# Altium footprint library WE-LAN.PcbLib: 41 footprints (part 1 of 3)
Each footprint in its own frame and in the unit in brackets; x right, y up, seen from the top. Pads: shape width x height; smd on the part's side, far side on the other; paste and mask are expansions set on the pad; w line width, h text height; cw(c..) or ccw(c..) is an arc to the next point about the centre after c.
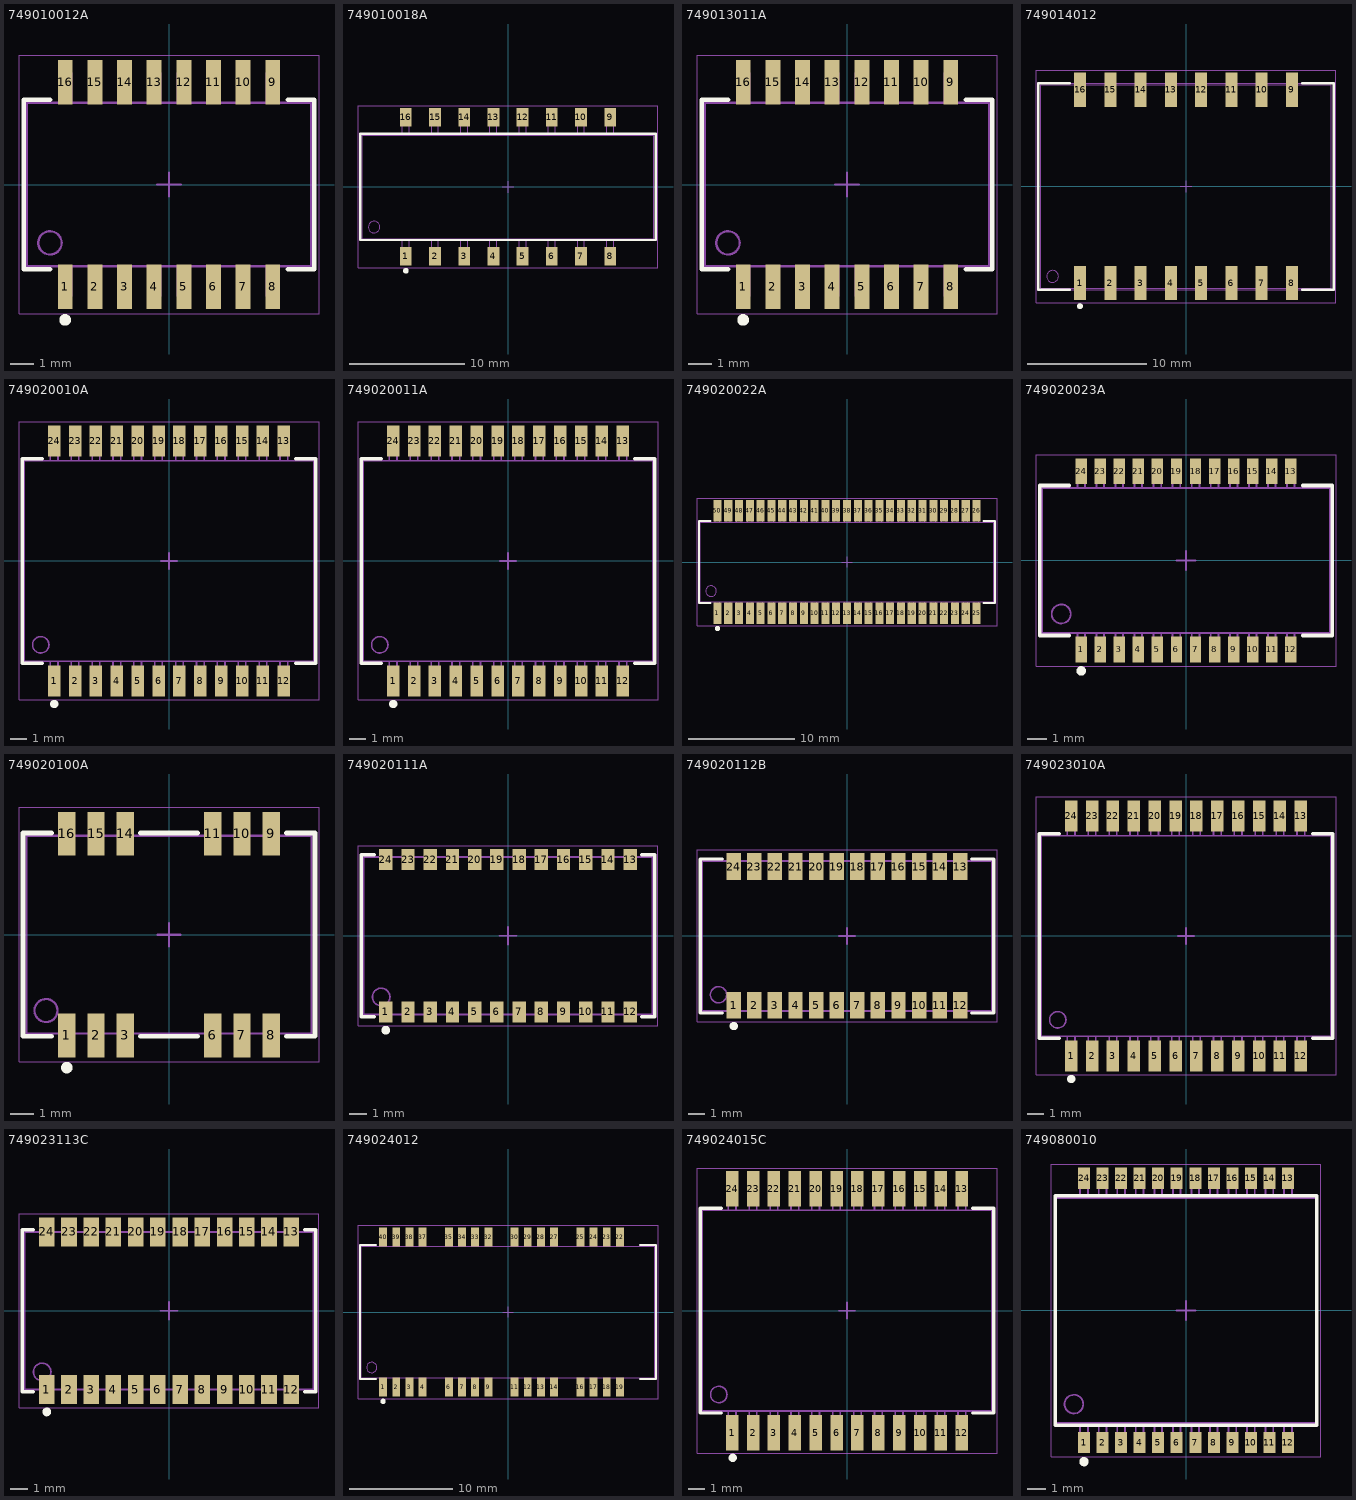
[diagram p0: the footprints below, top view; thin cyan lines are the x and y axes]

## 749010012A [mm] "SMD LAN Transformers, body 12.7x8.8mm, 16-Leads"
height 6.35
pads (16):
  rect 0.64x1.91 smd: 1(-4.445,-4.385) 2(-3.175,-4.385) 3(-1.905,-4.385) 4(-0.635,-4.385) 5(0.635,-4.385) 6(1.905,-4.385) 7(3.175,-4.385) 8(4.445,-4.385) 9(4.445,4.385) 10(3.175,4.385) 11(1.905,4.385) 12(0.635,4.385) 13(-0.635,4.385) 14(-1.905,4.385) 15(-3.175,4.385) 16(-4.445,4.385)
Top Overlay:
  circle w0.25: c-4.45,-5.8 r0.125
  lines w0.2: -5.1,-3.625 -6.225,-3.625 -6.225,3.625 -5.1,3.625 ; 5.1,-3.625 6.225,-3.625 6.225,3.625 5.1,3.625
Top Assembly:
  circle w0.1: c-5.1,-2.5 r0.5
  lines w0.1: -4.7,-3.5 -4.7,-4.76 -4.19,-4.76 -4.19,-3.5 ; -4.7,3.5 -4.7,4.76 -4.19,4.76 -4.19,3.5 ; -3.43,-3.5 -3.43,-4.76 -2.92,-4.76 -2.92,-3.5 ; -3.43,3.5 -3.43,4.76 -2.92,4.76 -2.92,3.5 ; -2.16,-3.5 -2.16,-4.76 -1.65,-4.76 -1.65,-3.5 ; -2.16,3.5 -2.16,4.76 -1.65,4.76 -1.65,3.5 ; -0.89,-3.5 -0.89,-4.76 -0.38,-4.76 -0.38,-3.5 ; -0.89,3.5 -0.89,4.76 -0.38,4.76 -0.38,3.5 ; 0.38,-3.5 0.38,-4.76 0.89,-4.76 0.89,-3.5 ; 0.38,3.5 0.38,4.76 0.89,4.76 0.89,3.5 ; 1.65,-3.5 1.65,-4.76 2.16,-4.76 2.16,-3.5 ; 1.65,3.5 1.65,4.76 2.16,4.76 2.16,3.5 ; 2.92,-3.5 2.92,-4.76 3.43,-4.76 3.43,-3.5 ; 2.92,3.5 2.92,4.76 3.43,4.76 3.43,3.5 ; 4.19,-3.5 4.19,-4.76 4.7,-4.76 4.7,-3.5 ; 4.19,3.5 4.19,4.76 4.7,4.76 4.7,3.5 ; -6.1,-3.5 6.1,-3.5 6.1,3.5 -6.1,3.5 -6.1,-3.5
Top Designator:
  text ".Designator" at -3.647,-0.357 h1
Top Courtyard:
  lines w0.05: -6.425,-5.54 6.425,-5.54 6.425,5.54 -6.425,5.54 -6.425,-5.54
Top Component Center:
  lines w0.1: -0.5,0 0.5,0 ; 0,-0.5 0,0.5
3D body "749010012A.stp": height 5.4, standoff 0, extent -6.1,-4.76 6.1,4.76

## 749010018A [mm] "SMD LAN Transformers, body 25.1x9mm, 16-Leads"
height 5.8
pads (16):
  rect 1.02x1.6 smd: 1(-8.89,-6.05) 2(-6.35,-6.05) 3(-3.81,-6.05) 4(-1.27,-6.05) 5(1.27,-6.05) 6(3.81,-6.05) 7(6.35,-6.05) 8(8.89,-6.05) 9(8.89,6.05) 10(6.35,6.05) 11(3.81,6.05) 12(1.27,6.05) 13(-1.27,6.05) 14(-3.81,6.05) 15(-6.35,6.05) 16(-8.89,6.05)
Top Overlay:
  circle w0.25: c-8.89,-7.3 r0.125
  lines w0.2: -12.85,-4.625 12.85,-4.625 12.85,4.625 -12.85,4.625 -12.85,-4.625
Top Assembly:
  circle w0.1: c-11.65,-3.5 r0.5
  lines w0.1: -9.19,-4.5 -9.19,-6.35 -8.59,-6.35 -8.59,-4.5 ; -9.19,4.5 -9.19,6.35 -8.59,6.35 -8.59,4.5 ; -6.65,-4.5 -6.65,-6.35 -6.05,-6.35 -6.05,-4.5 ; -6.65,4.5 -6.65,6.35 -6.05,6.35 -6.05,4.5 ; -4.11,-4.5 -4.11,-6.35 -3.51,-6.35 -3.51,-4.5 ; -4.11,4.5 -4.11,6.35 -3.51,6.35 -3.51,4.5 ; -1.57,-4.5 -1.57,-6.35 -0.97,-6.35 -0.97,-4.5 ; -1.57,4.5 -1.57,6.35 -0.97,6.35 -0.97,4.5 ; 0.97,-4.5 0.97,-6.35 1.57,-6.35 1.57,-4.5 ; 0.97,4.5 0.97,6.35 1.57,6.35 1.57,4.5 ; 3.51,-4.5 3.51,-6.35 4.11,-6.35 4.11,-4.5 ; 3.51,4.5 3.51,6.35 4.11,6.35 4.11,4.5 ; 6.05,-4.5 6.05,-6.35 6.65,-6.35 6.65,-4.5 ; 6.05,4.5 6.05,6.35 6.65,6.35 6.65,4.5 ; 8.59,-4.5 8.59,-6.35 9.19,-6.35 9.19,-4.5 ; 8.59,4.5 8.59,6.35 9.19,6.35 9.19,4.5 ; -12.7,-4.5 -12.7,4.5 12.7,4.5 12.7,-4.5 -12.7,-4.5
Top Designator:
  text ".Designator" at -3.647,-0.357 h1
Top Courtyard:
  lines w0.05: -13.05,-7.04 13.05,-7.04 13.05,7.05 -13.05,7.05 -13.05,-7.04
Top Component Center:
  lines w0.1: -0.5,0 0.5,0 ; 0,-0.5 0,0.5
3D body "749010018A.stp": height 6.02, standoff 0.02, extent -12.7,-6.35 12.7,6.35

## 749013011A [mm] "SMD LAN Transformers, body 12.7x8.8mm, 16-Leads"
height 6.35
pads (16):
  rect 0.64x1.91 smd: 1(-4.445,-4.385) 2(-3.175,-4.385) 3(-1.905,-4.385) 4(-0.635,-4.385) 5(0.635,-4.385) 6(1.905,-4.385) 7(3.175,-4.385) 8(4.445,-4.385) 9(4.445,4.385) 10(3.175,4.385) 11(1.905,4.385) 12(0.635,4.385) 13(-0.635,4.385) 14(-1.905,4.385) 15(-3.175,4.385) 16(-4.445,4.385)
Top Overlay:
  circle w0.25: c-4.45,-5.8 r0.125
  lines w0.2: -5.1,-3.625 -6.225,-3.625 -6.225,3.625 -5.1,3.625 ; 5.1,-3.625 6.225,-3.625 6.225,3.625 5.1,3.625
Top Assembly:
  circle w0.1: c-5.1,-2.5 r0.5
  lines w0.1: -4.7,-3.5 -4.7,-4.76 -4.19,-4.76 -4.19,-3.5 ; -4.7,3.5 -4.7,4.76 -4.19,4.76 -4.19,3.5 ; -3.43,-3.5 -3.43,-4.76 -2.92,-4.76 -2.92,-3.5 ; -3.43,3.5 -3.43,4.76 -2.92,4.76 -2.92,3.5 ; -2.16,-3.5 -2.16,-4.76 -1.65,-4.76 -1.65,-3.5 ; -2.16,3.5 -2.16,4.76 -1.65,4.76 -1.65,3.5 ; -0.89,-3.5 -0.89,-4.76 -0.38,-4.76 -0.38,-3.5 ; -0.89,3.5 -0.89,4.76 -0.38,4.76 -0.38,3.5 ; 0.38,-3.5 0.38,-4.76 0.89,-4.76 0.89,-3.5 ; 0.38,3.5 0.38,4.76 0.89,4.76 0.89,3.5 ; 1.65,-3.5 1.65,-4.76 2.16,-4.76 2.16,-3.5 ; 1.65,3.5 1.65,4.76 2.16,4.76 2.16,3.5 ; 2.92,-3.5 2.92,-4.76 3.43,-4.76 3.43,-3.5 ; 2.92,3.5 2.92,4.76 3.43,4.76 3.43,3.5 ; 4.19,-3.5 4.19,-4.76 4.7,-4.76 4.7,-3.5 ; 4.19,3.5 4.19,4.76 4.7,4.76 4.7,3.5 ; -6.1,-3.5 -6.1,3.5 6.1,3.5 6.1,-3.5 -6.1,-3.5
Top Designator:
  text ".Designator" at -3.647,-0.357 h1
Top Courtyard:
  lines w0.05: -6.425,-5.54 -6.425,5.54 6.425,5.54 6.425,-5.54 -6.425,-5.54
Top Component Center:
  lines w0.1: -0.5,0 0.5,0 ; 0,-0.5 0,0.5
3D body "749013011A.stp": height 5.4, standoff 0, extent -6.1,-4.76 6.1,4.76

## 749014012 [mm] "SMD LAN Transformers, body 24.4x17.1mm, 16-Leads"
height 10.5
pads (16):
  rect 1.02x2.87 smd: 1(-8.89,-8.115) 2(-6.35,-8.115) 3(-3.81,-8.115) 4(-1.27,-8.115) 5(1.27,-8.115) 6(3.81,-8.115) 7(6.35,-8.115) 8(8.89,-8.115) 9(8.89,8.115) 10(6.35,8.115) 11(3.81,8.115) 12(1.27,8.115) 13(-1.27,8.115) 14(-3.81,8.115) 15(-6.35,8.115) 16(-8.89,8.115)
Top Overlay:
  circle w0.25: c-8.9,-10.05 r0.125
  lines w0.2: -9.75,-8.675 -12.39,-8.675 -12.39,8.675 -9.75,8.675 ; 9.75,-8.675 12.39,-8.675 12.39,8.675 9.75,8.675
Top Assembly:
  circle w0.1: c-11.2,-7.55 r0.5
  lines w0.1: -12.39,-8.675 -12.39,8.675 12.39,8.675 12.39,-8.675 -12.39,-8.675
Top Designator:
  text ".Designator" at -3.647,-0.357 h1
Top 3D Body:
  circle w0.1: c-11.2,-7.55 r0.5
  lines w0.1: -12.2,-8.55 -12.2,8.55 12.2,8.55 12.2,-8.55 -12.2,-8.55
Top Courtyard:
  lines w0.05: -12.59,-9.75 12.59,-9.75 12.59,9.75 -12.59,9.75 -12.59,-9.75
Top Component Center:
  lines w0.1: -0.5,0 0.5,0 ; 0,-0.5 0,0.5
3D body "749014012.stp": height 10.52, standoff 0.02, extent -12.2,-9.05 12.2,9.05

## 749020010A [mil] "SMD LAN Transformers, body 17.5x14.2mm, 24-Leads"
height 255.91
pads (24):
  rect 29.92x75 smd: 1(-275,-287.5) 2(-225,-287.5) 3(-175,-287.5) 4(-125,-287.5) 5(-75,-287.5) 6(-25,-287.5) 7(25,-287.5) 8(75,-287.5) 9(125,-287.5) 10(175,-287.5) 11(225,-287.5) 12(275,-287.5) 13(275,287.5) 14(225,287.5) 15(175,287.5) 16(125,287.5) 17(75,287.5) 18(25,287.5) 19(-25,287.5) 20(-75,287.5) 21(-125,287.5) 22(-175,287.5) 23(-225,287.5) 24(-275,287.5)
Top Overlay:
  circle w9.84: c-275,-342.52 r4.92
  lines w7.87: -303.15,-245.08 -351.38,-245.08 -351.38,245.08 -303.15,245.08 ; 303.15,-245.08 351.38,-245.08 351.38,245.08 303.15,245.08
Top Assembly:
  circle w3.94: c-307.09,-200.79 r19.68
  lines w3.94: -284.06,-240.16 -284.06,-314.96 -265.94,-314.96 -265.94,-240.16 ; -284.06,240.16 -284.06,314.96 -265.94,314.96 -265.94,240.16 ; -234.06,-240.16 -234.06,-314.96 -215.94,-314.96 -215.94,-240.16 ; -234.06,240.16 -234.06,314.96 -215.94,314.96 -215.94,240.16 ; -184.06,-240.16 -184.06,-314.96 -165.94,-314.96 -165.94,-240.16 ; -184.06,240.16 -184.06,314.96 -165.94,314.96 -165.94,240.16 ; -134.06,-240.16 -134.06,-314.96 -115.94,-314.96 -115.94,-240.16 ; -134.06,240.16 -134.06,314.96 -115.94,314.96 -115.94,240.16 ; -84.06,-240.16 -84.06,-314.96 -65.94,-314.96 -65.94,-240.16 ; -84.06,240.16 -84.06,314.96 -65.94,314.96 -65.94,240.16 ; -34.06,-240.16 -34.06,-314.96 -15.94,-314.96 -15.94,-240.16 ; -34.06,240.16 -34.06,314.96 -15.94,314.96 -15.94,240.16 ; 15.94,-240.16 15.94,-314.96 34.06,-314.96 34.06,-240.16 ; 15.94,240.16 15.94,314.96 34.06,314.96 34.06,240.16 ; 65.94,-240.16 65.94,-314.96 84.06,-314.96 84.06,-240.16 ; 65.94,240.16 65.94,314.96 84.06,314.96 84.06,240.16 ; 115.94,-240.16 115.94,-314.96 134.06,-314.96 134.06,-240.16 ; 115.94,240.16 115.94,314.96 134.06,314.96 134.06,240.16 ; 165.94,-240.16 165.94,-314.96 184.06,-314.96 184.06,-240.16 ; 165.94,240.16 165.94,314.96 184.06,314.96 184.06,240.16 ; 215.94,-240.16 215.94,-314.96 234.06,-314.96 234.06,-240.16 ; 215.94,240.16 215.94,314.96 234.06,314.96 234.06,240.16 ; 265.94,-240.16 265.94,-314.96 284.06,-314.96 284.06,-240.16 ; 265.94,240.16 265.94,314.96 284.06,314.96 284.06,240.16 ; -346.46,-240.16 -346.46,240.16 346.46,240.16 346.46,-240.16 -346.46,-240.16
Top Designator:
  text ".Designator" at -143.58,-14.06 h39.37
Top Courtyard:
  lines w1.97: -359.25,-332.87 359.25,-332.87 359.25,332.87 -359.25,332.87 -359.25,-332.87
Top Component Center:
  lines w3.94: -19.68,0 19.68,0 ; 0,-19.68 0,19.68
3D body "749020010A.stp": height 237.2, standoff 0.98, extent -346.46,-312.99 346.45,312.99

## 749020011A [mil] "SMD LAN Transformers, body 17.5x14.2mm, 24-Leads"
height 255.91
pads (24):
  rect 29.92x75 smd: 1(-275,-287.5) 2(-225,-287.5) 3(-175,-287.5) 4(-125,-287.5) 5(-75,-287.5) 6(-25,-287.5) 7(25,-287.5) 8(75,-287.5) 9(125,-287.5) 10(175,-287.5) 11(225,-287.5) 12(275,-287.5) 13(275,287.5) 14(225,287.5) 15(175,287.5) 16(125,287.5) 17(75,287.5) 18(25,287.5) 19(-25,287.5) 20(-75,287.5) 21(-125,287.5) 22(-175,287.5) 23(-225,287.5) 24(-275,287.5)
Top Overlay:
  circle w9.84: c-275,-342.52 r4.92
  lines w7.87: -303.15,-245.08 -351.38,-245.08 -351.38,245.08 -303.15,245.08 ; 303.15,-245.08 351.38,-245.08 351.38,245.08 303.15,245.08
Top Assembly:
  circle w3.94: c-307.09,-200.79 r19.68
  lines w3.94: -284.06,-240.16 -284.06,-314.96 -265.94,-314.96 -265.94,-240.16 ; -284.06,240.16 -284.06,314.96 -265.94,314.96 -265.94,240.16 ; -234.06,-240.16 -234.06,-314.96 -215.94,-314.96 -215.94,-240.16 ; -234.06,240.16 -234.06,314.96 -215.94,314.96 -215.94,240.16 ; -184.06,-240.16 -184.06,-314.96 -165.94,-314.96 -165.94,-240.16 ; -184.06,240.16 -184.06,314.96 -165.94,314.96 -165.94,240.16 ; -134.06,-240.16 -134.06,-314.96 -115.94,-314.96 -115.94,-240.16 ; -134.06,240.16 -134.06,314.96 -115.94,314.96 -115.94,240.16 ; -84.06,-240.16 -84.06,-314.96 -65.94,-314.96 -65.94,-240.16 ; -84.06,240.16 -84.06,314.96 -65.94,314.96 -65.94,240.16 ; -34.06,-240.16 -34.06,-314.96 -15.94,-314.96 -15.94,-240.16 ; -34.06,240.16 -34.06,314.96 -15.94,314.96 -15.94,240.16 ; 15.94,-240.16 15.94,-314.96 34.06,-314.96 34.06,-240.16 ; 15.94,240.16 15.94,314.96 34.06,314.96 34.06,240.16 ; 65.94,-240.16 65.94,-314.96 84.06,-314.96 84.06,-240.16 ; 65.94,240.16 65.94,314.96 84.06,314.96 84.06,240.16 ; 115.94,-240.16 115.94,-314.96 134.06,-314.96 134.06,-240.16 ; 115.94,240.16 115.94,314.96 134.06,314.96 134.06,240.16 ; 165.94,-240.16 165.94,-314.96 184.06,-314.96 184.06,-240.16 ; 165.94,240.16 165.94,314.96 184.06,314.96 184.06,240.16 ; 215.94,-240.16 215.94,-314.96 234.06,-314.96 234.06,-240.16 ; 215.94,240.16 215.94,314.96 234.06,314.96 234.06,240.16 ; 265.94,-240.16 265.94,-314.96 284.06,-314.96 284.06,-240.16 ; 265.94,240.16 265.94,314.96 284.06,314.96 284.06,240.16 ; -346.46,-240.16 346.46,-240.16 346.46,240.16 -346.46,240.16 -346.46,-240.16
Top Designator:
  text ".Designator" at -143.58,-14.06 h39.37
Top Courtyard:
  lines w1.97: -359.25,-332.87 -359.25,332.87 359.25,332.87 359.25,-332.87 -359.25,-332.87
Top Component Center:
  lines w3.94: -19.68,0 19.68,0 ; 0,-19.68 0,19.68
3D body "749020011A.stp": height 237.2, standoff 0.98, extent -346.46,-312.99 346.45,312.99

## 749020022A [mm] "SMD LAN Transformers, body 27.7x7.5mm, 50-Leads"
height 8.65
pads (50):
  rect 0.76x2.03 smd: 1(-12.24,-4.825) 2(-11.22,-4.825) 3(-10.2,-4.825) 4(-9.18,-4.825) 5(-8.16,-4.825) 6(-7.14,-4.825) 7(-6.12,-4.825) 8(-5.1,-4.825) 9(-4.08,-4.825) 10(-3.06,-4.825) 11(-2.04,-4.825) 12(-1.02,-4.825) 13(0,-4.825) 14(1.02,-4.825) 15(2.04,-4.825) 16(3.06,-4.825) 17(4.08,-4.825) 18(5.1,-4.825) 19(6.12,-4.825) 20(7.14,-4.825) 21(8.16,-4.825) 22(9.18,-4.825) 23(10.2,-4.825) 24(11.22,-4.825) 25(12.24,-4.825) 26(12.24,4.825) 27(11.22,4.825) 28(10.2,4.825) 29(9.18,4.825) 30(8.16,4.825) 31(7.14,4.825) 32(6.12,4.825) 33(5.1,4.825) 34(4.08,4.825) 35(3.06,4.825) 36(2.04,4.825) 37(1.02,4.825) 38(0,4.825) 39(-1.02,4.825) 40(-2.04,4.825) 41(-3.06,4.825) 42(-4.08,4.825) 43(-5.1,4.825) 44(-6.12,4.825) 45(-7.14,4.825) 46(-8.16,4.825) 47(-9.18,4.825) 48(-10.2,4.825) 49(-11.22,4.825) 50(-12.24,4.825)
Top Overlay:
  circle w0.25: c-12.24,-6.29 r0.125
  lines w0.2: -12.9,-3.875 -13.975,-3.875 -13.975,3.875 -12.9,3.875 ; 12.9,-3.875 13.975,-3.875 13.975,3.875 12.9,3.875
Top Assembly:
  drawing of 155 lines, arcs and shapes, not listed
Top Designator:
  text ".Designator" at -3.647,-0.357 h1
Top Courtyard:
  lines w0.05: -14.175,-6.04 14.175,-6.04 14.175,6.04 -14.175,6.04 -14.175,-6.04
Top Component Center:
  lines w0.1: -0.5,0 0.5,0 ; 0,-0.5 0,0.5
3D body "749020022A.stp": height 8.66, standoff 0, extent -14.1,-5.58 14.1,5.58

## 749020023A [mm] "SMD LAN Transformers, body 15.1x7.1mm, 24-Leads"
height 4.25
pads (24):
  rect 0.6x1.35 smd: 1(-5.5,-4.675) 2(-4.5,-4.675) 3(-3.5,-4.675) 4(-2.5,-4.675) 5(-1.5,-4.675) 6(-0.5,-4.675) 7(0.5,-4.675) 8(1.5,-4.675) 9(2.5,-4.675) 10(3.5,-4.675) 11(4.5,-4.675) 12(5.5,-4.675) 13(5.5,4.675) 14(4.5,4.675) 15(3.5,4.675) 16(2.5,4.675) 17(1.5,4.675) 18(0.5,4.675) 19(-0.5,4.675) 20(-1.5,4.675) 21(-2.5,4.675) 22(-3.5,4.675) 23(-4.5,4.675) 24(-5.5,4.675)
Top Overlay:
  circle w0.25: c-5.5,-5.8 r0.125
  lines w0.2: -6.15,-3.935 -7.675,-3.935 -7.675,3.935 -6.15,3.935 ; 6.15,-3.935 7.675,-3.935 7.675,3.935 6.15,3.935
Top Assembly:
  circle w0.1: c-6.55,-2.81 r0.5
  lines w0.1: -5.7,-3.81 -5.7,-5 -5.3,-5 -5.3,-3.81 ; -5.7,3.81 -5.7,5 -5.3,5 -5.3,3.81 ; -4.7,-3.81 -4.7,-5 -4.3,-5 -4.3,-3.81 ; -4.7,3.81 -4.7,5 -4.3,5 -4.3,3.81 ; -3.7,-3.81 -3.7,-5 -3.3,-5 -3.3,-3.81 ; -3.7,3.81 -3.7,5 -3.3,5 -3.3,3.81 ; -2.7,-3.81 -2.7,-5 -2.3,-5 -2.3,-3.81 ; -2.7,3.81 -2.7,5 -2.3,5 -2.3,3.81 ; -1.7,-3.81 -1.7,-5 -1.3,-5 -1.3,-3.81 ; -1.7,3.81 -1.7,5 -1.3,5 -1.3,3.81 ; -0.7,-3.81 -0.7,-5 -0.3,-5 -0.3,-3.81 ; -0.7,3.81 -0.7,5 -0.3,5 -0.3,3.81 ; 0.3,-3.81 0.3,-5 0.7,-5 0.7,-3.81 ; 0.3,3.81 0.3,5 0.7,5 0.7,3.81 ; 1.3,-3.81 1.3,-5 1.7,-5 1.7,-3.81 ; 1.3,3.81 1.3,5 1.7,5 1.7,3.81 ; 2.3,-3.81 2.3,-5 2.7,-5 2.7,-3.81 ; 2.3,3.81 2.3,5 2.7,5 2.7,3.81 ; 3.3,-3.81 3.3,-5 3.7,-5 3.7,-3.81 ; 3.3,3.81 3.3,5 3.7,5 3.7,3.81 ; 4.3,-3.81 4.3,-5 4.7,-5 4.7,-3.81 ; 4.3,3.81 4.3,5 4.7,5 4.7,3.81 ; 5.3,-3.81 5.3,-5 5.7,-5 5.7,-3.81 ; 5.3,3.81 5.3,5 5.7,5 5.7,3.81 ; -7.55,-3.81 7.55,-3.81 7.55,3.81 -7.55,3.81 -7.55,-3.81
Top Designator:
  text ".Designator" at -3.647,-0.357 h1
Top Courtyard:
  lines w0.05: -7.875,-5.55 7.875,-5.55 7.875,5.55 -7.875,5.55 -7.875,-5.55
Top Component Center:
  lines w0.1: -0.5,0 0.5,0 ; 0,-0.5 0,0.5
3D body "749020023A.stp": height 4, standoff 0, extent -7.551,-5 7.551,5

## 749020100A [mm] "SMD LAN Transformers, body 12.4x8.6mm, 12-Leads"
height 3.25
pads (12):
  rect 0.76x1.9 smd: 1(-4.445,-4.385) 2(-3.175,-4.385) 3(-1.905,-4.385) 6(1.905,-4.385) 7(3.175,-4.385) 8(4.445,-4.385) 9(4.445,4.385) 10(3.175,4.385) 11(1.905,4.385) 14(-1.905,4.385) 15(-3.175,4.385) 16(-4.445,4.385)
Top Overlay:
  circle w0.25: c-4.445,-5.785 r0.125
  lines w0.2: -5.1,-4.425 -6.35,-4.425 -6.35,4.425 -5.1,4.425 ; -1.25,-4.425 1.25,-4.425 ; -1.25,4.425 1.25,4.425 ; 5.1,-4.425 6.35,-4.425 6.35,4.425 5.1,4.425
Top Assembly:
  circle w0.1: c-5.35,-3.3 r0.5
  lines w0.1: -6.2,-4.3 6.2,-4.3 6.2,4.3 -6.2,4.3 -6.2,-4.3
Top Designator:
  text ".Designator" at -3.647,-0.357 h1
Top Courtyard:
  lines w0.05: -6.525,-5.535 6.525,-5.535 6.525,5.535 -6.525,5.535 -6.525,-5.535
Top Component Center:
  lines w0.1: -0.5,0 0.5,0 ; 0,-0.5 0,0.5
3D body "749020100A.stp": height 2.93, standoff 0, extent -6.225,-4.75 6.225,4.75

## 749020111A [mm] "SMD LAN Transformers, body 16.5x9mm, 24-Leads"
height 2.35
pads (24):
  rect 0.76x1.2 smd: 1(-6.985,-4.35) 2(-5.715,-4.35) 3(-4.445,-4.35) 4(-3.175,-4.35) 5(-1.905,-4.35) 6(-0.635,-4.35) 7(0.635,-4.35) 8(1.905,-4.35) 9(3.175,-4.35) 10(4.445,-4.35) 11(5.715,-4.35) 12(6.985,-4.35) 13(6.985,4.35) 14(5.715,4.35) 15(4.445,4.35) 16(3.175,4.35) 17(1.905,4.35) 18(0.635,4.35) 19(-0.635,4.35) 20(-1.905,4.35) 21(-3.175,4.35) 22(-4.445,4.35) 23(-5.715,4.35) 24(-6.985,4.35)
Top Overlay:
  circle w0.25: c-6.985,-5.4 r0.125
  lines w0.2: -7.65,-4.625 -8.375,-4.625 -8.375,4.625 -7.65,4.625 ; 7.65,-4.625 8.375,-4.625 8.375,4.625 7.65,4.625
Top Assembly:
  circle w0.1: c-7.25,-3.5 r0.5
  lines w0.1: -8.25,-4.5 8.25,-4.5 8.25,4.5 -8.25,4.5 -8.25,-4.5
Top Designator:
  text ".Designator" at -3.647,-0.357 h1
Top Courtyard:
  lines w0.05: -8.575,-5.15 -8.575,5.15 8.575,5.15 8.575,-5.15 -8.575,-5.15
Top Component Center:
  lines w0.1: -0.5,0 0.5,0 ; 0,-0.5 0,0.5
3D body "749020111A.stp": height 2.35, standoff 0, extent -8.25,-4.8 8.25,4.8

## 749020112B [mm] "SMD LAN Transformers, body 17.85x9.25mm, 16-Leads"
height 2.39
pads (24):
  rect 0.89x1.65 smd: 1(-6.985,-4.28) 2(-5.715,-4.28) 3(-4.445,-4.28) 4(-3.175,-4.28) 5(-1.905,-4.28) 6(-0.635,-4.28) 7(0.635,-4.28) 8(1.905,-4.28) 9(3.175,-4.28) 10(4.445,-4.28) 11(5.715,-4.28) 12(6.985,-4.28) 13(6.985,4.28) 14(5.715,4.28) 15(4.445,4.28) 16(3.175,4.28) 17(1.905,4.28) 18(0.635,4.28) 19(-0.635,4.28) 20(-1.905,4.28) 21(-3.175,4.28) 22(-4.445,4.28) 23(-5.715,4.28) 24(-6.985,4.28)
Top Overlay:
  circle w0.25: c-6.985,-5.555 r0.125
  lines w0.2: -7.7,-4.75 -9.05,-4.75 -9.05,4.75 -7.7,4.75 ; 7.7,-4.75 9.05,-4.75 9.05,4.75 7.7,4.75
Top Assembly:
  circle w0.1: c-7.925,-3.625 r0.5
  lines w0.1: -8.925,-4.625 -8.925,4.625 8.925,4.625 8.925,-4.625 -8.925,-4.625
Top Designator:
  text ".Designator" at -3.647,-0.357 h1
Top Courtyard:
  lines w0.05: -9.25,-5.305 9.25,-5.305 9.25,5.305 -9.25,5.305 -9.25,-5.305
Top Component Center:
  lines w0.1: -0.5,0 0.5,0 ; 0,-0.5 0,0.5
3D body "749020112B.stp": height 2.39, standoff 0, extent -8.925,-4.775 8.925,4.775

## 749023010A [mil] "SMD LAN Transformers, body 17.5x14.2mm, 24-Leads"
height 255.91
pads (24):
  rect 29.92x75 smd: 1(-275,-287.5) 2(-225,-287.5) 3(-175,-287.5) 4(-125,-287.5) 5(-75,-287.5) 6(-25,-287.5) 7(25,-287.5) 8(75,-287.5) 9(125,-287.5) 10(175,-287.5) 11(225,-287.5) 12(275,-287.5) 13(275,287.5) 14(225,287.5) 15(175,287.5) 16(125,287.5) 17(75,287.5) 18(25,287.5) 19(-25,287.5) 20(-75,287.5) 21(-125,287.5) 22(-175,287.5) 23(-225,287.5) 24(-275,287.5)
Top Overlay:
  circle w9.84: c-275,-342.52 r4.92
  lines w7.87: -303.15,-245.08 -351.38,-245.08 -351.38,245.08 -303.15,245.08 ; 303.15,-245.08 351.38,-245.08 351.38,245.08 303.15,245.08
Top Assembly:
  circle w3.94: c-307.09,-200.79 r19.68
  lines w3.94: -284.06,-240.16 -284.06,-314.96 -265.94,-314.96 -265.94,-240.16 ; -284.06,240.16 -284.06,314.96 -265.94,314.96 -265.94,240.16 ; -234.06,-240.16 -234.06,-314.96 -215.94,-314.96 -215.94,-240.16 ; -234.06,240.16 -234.06,314.96 -215.94,314.96 -215.94,240.16 ; -184.06,-240.16 -184.06,-314.96 -165.94,-314.96 -165.94,-240.16 ; -184.06,240.16 -184.06,314.96 -165.94,314.96 -165.94,240.16 ; -134.06,-240.16 -134.06,-314.96 -115.94,-314.96 -115.94,-240.16 ; -134.06,240.16 -134.06,314.96 -115.94,314.96 -115.94,240.16 ; -84.06,-240.16 -84.06,-314.96 -65.94,-314.96 -65.94,-240.16 ; -84.06,240.16 -84.06,314.96 -65.94,314.96 -65.94,240.16 ; -34.06,-240.16 -34.06,-314.96 -15.94,-314.96 -15.94,-240.16 ; -34.06,240.16 -34.06,314.96 -15.94,314.96 -15.94,240.16 ; 15.94,-240.16 15.94,-314.96 34.06,-314.96 34.06,-240.16 ; 15.94,240.16 15.94,314.96 34.06,314.96 34.06,240.16 ; 65.94,-240.16 65.94,-314.96 84.06,-314.96 84.06,-240.16 ; 65.94,240.16 65.94,314.96 84.06,314.96 84.06,240.16 ; 115.94,-240.16 115.94,-314.96 134.06,-314.96 134.06,-240.16 ; 115.94,240.16 115.94,314.96 134.06,314.96 134.06,240.16 ; 165.94,-240.16 165.94,-314.96 184.06,-314.96 184.06,-240.16 ; 165.94,240.16 165.94,314.96 184.06,314.96 184.06,240.16 ; 215.94,-240.16 215.94,-314.96 234.06,-314.96 234.06,-240.16 ; 215.94,240.16 215.94,314.96 234.06,314.96 234.06,240.16 ; 265.94,-240.16 265.94,-314.96 284.06,-314.96 284.06,-240.16 ; 265.94,240.16 265.94,314.96 284.06,314.96 284.06,240.16 ; -346.46,-240.16 346.46,-240.16 346.46,240.16 -346.46,240.16 -346.46,-240.16
Top Designator:
  text ".Designator" at -143.58,-14.06 h39.37
Top Courtyard:
  lines w1.97: -359.25,-332.87 359.25,-332.87 359.25,332.87 -359.25,332.87 -359.25,-332.87
Top Component Center:
  lines w3.94: -19.68,0 19.68,0 ; 0,-19.68 0,19.68
3D body "749023010A.stp": height 237.2, standoff 0.98, extent -346.46,-312.99 346.45,313

## 749023113C [mm] "SMD LAN Transformers, body 16.5x9mm, 24-Leads"
height 2.4
pads (24):
  rect 0.89x1.65 smd: 1(-6.985,-4.51) 2(-5.715,-4.51) 3(-4.445,-4.51) 4(-3.175,-4.51) 5(-1.905,-4.51) 6(-0.635,-4.51) 7(0.635,-4.51) 8(1.905,-4.51) 9(3.175,-4.51) 10(4.445,-4.51) 11(5.715,-4.51) 12(6.985,-4.51) 13(6.985,4.51) 14(5.715,4.51) 15(4.445,4.51) 16(3.175,4.51) 17(1.905,4.51) 18(0.635,4.51) 19(-0.635,4.51) 20(-1.905,4.51) 21(-3.175,4.51) 22(-4.445,4.51) 23(-5.715,4.51) 24(-6.985,4.51)
Top Overlay:
  circle w0.25: c-6.985,-5.785 r0.125
  lines w0.2: -7.75,-4.625 -8.375,-4.625 -8.375,4.625 -7.75,4.625 ; 7.75,-4.625 8.375,-4.625 8.375,4.625 7.75,4.625
Top Assembly:
  circle w0.1: c-7.25,-3.5 r0.5
  lines w0.1: -8.25,-4.5 8.25,-4.5 8.25,4.5 -8.25,4.5 -8.25,-4.5
Top Designator:
  text ".Designator" at -3.647,-0.357 h1
Top Courtyard:
  lines w0.05: -8.575,-5.535 8.575,-5.535 8.575,5.535 -8.575,5.535 -8.575,-5.535
Top Component Center:
  lines w0.1: -0.5,0 0.5,0 ; 0,-0.5 0,0.5
3D body "749023113C.stp": height 2.35, standoff 0.01, extent -8.25,-4.8 8.25,4.8

## 749024012 [mm] "SMD LAN Transformers, body 28.32x12.7mm, 32-Leads"
height 12.7
pads (32):
  rect 0.76x1.86 smd: 1(-12.06,-7.24) 2(-10.79,-7.24) 3(-9.52,-7.24) 4(-8.25,-7.24) 6(-5.71,-7.24) 7(-4.44,-7.24) 8(-3.17,-7.24) 9(-1.9,-7.24) 11(0.64,-7.24) 12(1.91,-7.24) 13(3.18,-7.24) 14(4.45,-7.24) 16(6.99,-7.24) 17(8.26,-7.24) 18(9.53,-7.24) 19(10.8,-7.24) 22(10.8,7.24) 23(9.53,7.24) 24(8.26,7.24) 25(6.99,7.24) 27(4.45,7.24) 28(3.18,7.24) 29(1.91,7.24) 30(0.64,7.24) 32(-1.9,7.24) 33(-3.17,7.24) 34(-4.44,7.24) 35(-5.71,7.24) 37(-8.25,7.24) 38(-9.52,7.24) 39(-10.79,7.24) 40(-12.06,7.24)
Top Overlay:
  circle w0.25: c-12.06,-8.62 r0.125
  lines w0.2: -12.75,-6.475 -14.285,-6.475 -14.285,6.475 -12.75,6.475 ; 12.75,-6.475 14.285,-6.475 14.285,6.475 12.75,6.475
Top Assembly:
  circle w0.1: c-13.16,-5.35 r0.5
  lines w0.1: -12.285,-6.35 -12.285,-7.745 -11.835,-7.745 -11.835,-6.35 ; -12.285,6.35 -12.285,7.745 -11.835,7.745 -11.835,6.35 ; -11.015,-6.35 -11.015,-7.745 -10.565,-7.745 -10.565,-6.35 ; -11.015,6.35 -11.015,7.745 -10.565,7.745 -10.565,6.35 ; -9.745,-6.35 -9.745,-7.745 -9.295,-7.745 -9.295,-6.35 ; -9.745,6.35 -9.745,7.745 -9.295,7.745 -9.295,6.35 ; -8.475,-6.35 -8.475,-7.745 -8.025,-7.745 -8.025,-6.35 ; -8.475,6.35 -8.475,7.745 -8.025,7.745 -8.025,6.35 ; -5.935,-6.35 -5.935,-7.745 -5.485,-7.745 -5.485,-6.35 ; -5.935,6.35 -5.935,7.745 -5.485,7.745 -5.485,6.35 ; -4.665,-6.35 -4.665,-7.745 -4.215,-7.745 -4.215,-6.35 ; -4.665,6.35 -4.665,7.745 -4.215,7.745 -4.215,6.35 ; -3.395,-6.35 -3.395,-7.745 -2.945,-7.745 -2.945,-6.35 ; -3.395,6.35 -3.395,7.745 -2.945,7.745 -2.945,6.35 ; -2.125,-6.35 -2.125,-7.745 -1.675,-7.745 -1.675,-6.35 ; -2.125,6.35 -2.125,7.745 -1.675,7.745 -1.675,6.35 ; 0.415,-6.35 0.415,-7.745 0.865,-7.745 0.865,-6.35 ; 0.415,6.35 0.415,7.745 0.865,7.745 0.865,6.35 ; 1.685,-6.35 1.685,-7.745 2.135,-7.745 2.135,-6.35 ; 1.685,6.35 1.685,7.745 2.135,7.745 2.135,6.35 ; 2.955,-6.35 2.955,-7.745 3.405,-7.745 3.405,-6.35 ; 2.955,6.35 2.955,7.745 3.405,7.745 3.405,6.35 ; 4.225,-6.35 4.225,-7.745 4.675,-7.745 4.675,-6.35 ; 4.225,6.35 4.225,7.745 4.675,7.745 4.675,6.35 ; 6.765,-6.35 6.765,-7.745 7.215,-7.745 7.215,-6.35 ; 6.765,6.35 6.765,7.745 7.215,7.745 7.215,6.35 ; 8.035,-6.35 8.035,-7.745 8.485,-7.745 8.485,-6.35 ; 8.035,6.35 8.035,7.745 8.485,7.745 8.485,6.35 ; 9.305,-6.35 9.305,-7.745 9.755,-7.745 9.755,-6.35 ; 9.305,6.35 9.305,7.745 9.755,7.745 9.755,6.35 ; 10.575,-6.35 10.575,-7.745 11.025,-7.745 11.025,-6.35 ; 10.575,6.35 10.575,7.745 11.025,7.745 11.025,6.35 ; -14.16,-6.35 -14.16,6.35 14.16,6.35 14.16,-6.35 -14.16,-6.35
Top Designator:
  text ".Designator" at -3.647,-0.357 h1
Top Courtyard:
  lines w0.05: -14.485,-8.37 14.485,-8.37 14.485,8.37 -14.485,8.37 -14.485,-8.37
Top Component Center:
  lines w0.1: -0.5,0 0.5,0 ; 0,-0.5 0,0.5
3D body "749024012.stp": height 12.7, standoff 0, extent -14.285,-7.745 14.285,7.745

## 749024015C [mm] "SMD LAN Transformers, body 17.6x14.2mm, 24-Leads"
height 6
pads (24):
  rect 0.76x2.15 smd: 1(-6.985,-7.425) 2(-5.715,-7.425) 3(-4.445,-7.425) 4(-3.175,-7.425) 5(-1.905,-7.425) 6(-0.635,-7.425) 7(0.635,-7.425) 8(1.905,-7.425) 9(3.175,-7.425) 10(4.445,-7.425) 11(5.715,-7.425) 12(6.985,-7.425) 13(6.985,7.425) 14(5.715,7.425) 15(4.445,7.425) 16(3.175,7.425) 17(1.905,7.425) 18(0.635,7.425) 19(-0.635,7.425) 20(-1.905,7.425) 21(-3.175,7.425) 22(-4.445,7.425) 23(-5.715,7.425) 24(-6.985,7.425)
Top Overlay:
  circle w0.25: c-6.95,-8.95 r0.125
  lines w0.2: -7.65,-6.225 -8.925,-6.225 -8.925,6.225 -7.65,6.225 ; 7.65,-6.225 8.925,-6.225 8.925,6.225 7.65,6.225
Top Assembly:
  circle w0.1: c-7.8,-5.1 r0.5
  lines w0.1: -7.215,-6.1 -7.215,-8 -6.755,-8 -6.755,-6.1 ; -7.215,6.1 -7.215,8 -6.755,8 -6.755,6.1 ; -5.945,-6.1 -5.945,-8 -5.485,-8 -5.485,-6.1 ; -5.945,6.1 -5.945,8 -5.485,8 -5.485,6.1 ; -4.675,-6.1 -4.675,-8 -4.215,-8 -4.215,-6.1 ; -4.675,6.1 -4.675,8 -4.215,8 -4.215,6.1 ; -3.405,-6.1 -3.405,-8 -2.945,-8 -2.945,-6.1 ; -3.405,6.1 -3.405,8 -2.945,8 -2.945,6.1 ; -2.135,-6.1 -2.135,-8 -1.675,-8 -1.675,-6.1 ; -2.135,6.1 -2.135,8 -1.675,8 -1.675,6.1 ; -0.865,-6.1 -0.865,-8 -0.405,-8 -0.405,-6.1 ; -0.865,6.1 -0.865,8 -0.405,8 -0.405,6.1 ; 0.405,-6.1 0.405,-8 0.865,-8 0.865,-6.1 ; 0.405,6.1 0.405,8 0.865,8 0.865,6.1 ; 1.675,-6.1 1.675,-8 2.135,-8 2.135,-6.1 ; 1.675,6.1 1.675,8 2.135,8 2.135,6.1 ; 2.945,-6.1 2.945,-8 3.405,-8 3.405,-6.1 ; 2.945,6.1 2.945,8 3.405,8 3.405,6.1 ; 4.215,-6.1 4.215,-8 4.675,-8 4.675,-6.1 ; 4.215,6.1 4.215,8 4.675,8 4.675,6.1 ; 5.485,-6.1 5.485,-8 5.945,-8 5.945,-6.1 ; 5.485,6.1 5.485,8 5.945,8 5.945,6.1 ; 6.755,-6.1 6.755,-8 7.215,-8 7.215,-6.1 ; 6.755,6.1 6.755,8 7.215,8 7.215,6.1 ; -8.8,-6.1 8.8,-6.1 8.8,6.1 -8.8,6.1 -8.8,-6.1
Top Designator:
  text ".Designator" at -3.647,-0.357 h1
Top Courtyard:
  lines w0.05: -9.125,-8.67 9.125,-8.67 9.125,8.67 -9.125,8.67 -9.125,-8.67
Top Component Center:
  lines w0.1: -0.5,0 0.5,0 ; 0,-0.5 0,0.5
3D body "749024015C.stp": height 6, standoff 0, extent -8.8,-8 8.8,8

## 749080010 [mm] "SMD LAN Transformers, body 13.97x12mm, 24-Leads"
height 6.6
pads (24):
  rect 0.64x1.14 smd: 1(-5.445,-7.05) 2(-4.455,-7.05) 3(-3.465,-7.05) 4(-2.475,-7.05) 5(-1.485,-7.05) 6(-0.495,-7.05) 7(0.495,-7.05) 8(1.485,-7.05) 9(2.475,-7.05) 10(3.465,-7.05) 11(4.455,-7.05) 12(5.445,-7.05) 13(5.445,7.05) 14(4.455,7.05) 15(3.465,7.05) 16(2.475,7.05) 17(1.485,7.05) 18(0.495,7.05) 19(-0.495,7.05) 20(-1.485,7.05) 21(-2.475,7.05) 22(-3.465,7.05) 23(-4.455,7.05) 24(-5.445,7.05)
Top Overlay:
  circle w0.25: c-5.445,-8.07 r0.125
  lines w0.2: -6.985,-6.125 6.985,-6.125 6.985,6.125 -6.985,6.125 -6.985,-6.125
Top Assembly:
  circle w0.1: c-5.985,-5 r0.5
  lines w0.1: -5.65,-6 -5.65,-7.555 -5.24,-7.555 -5.24,-6 ; -5.65,6 -5.65,7.555 -5.24,7.555 -5.24,6 ; -4.66,-6 -4.66,-7.555 -4.25,-7.555 -4.25,-6 ; -4.66,6 -4.66,7.555 -4.25,7.555 -4.25,6 ; -3.67,-6 -3.67,-7.555 -3.26,-7.555 -3.26,-6 ; -3.67,6 -3.67,7.555 -3.26,7.555 -3.26,6 ; -2.68,-6 -2.68,-7.555 -2.27,-7.555 -2.27,-6 ; -2.68,6 -2.68,7.555 -2.27,7.555 -2.27,6 ; -1.69,-6 -1.69,-7.555 -1.28,-7.555 -1.28,-6 ; -1.69,6 -1.69,7.555 -1.28,7.555 -1.28,6 ; -0.7,-6 -0.7,-7.555 -0.29,-7.555 -0.29,-6 ; -0.7,6 -0.7,7.555 -0.29,7.555 -0.29,6 ; 0.29,-6 0.29,-7.555 0.7,-7.555 0.7,-6 ; 0.29,6 0.29,7.555 0.7,7.555 0.7,6 ; 1.28,-6 1.28,-7.555 1.69,-7.555 1.69,-6 ; 1.28,6 1.28,7.555 1.69,7.555 1.69,6 ; 2.27,-6 2.27,-7.555 2.68,-7.555 2.68,-6 ; 2.27,6 2.27,7.555 2.68,7.555 2.68,6 ; 3.26,-6 3.26,-7.555 3.67,-7.555 3.67,-6 ; 3.26,6 3.26,7.555 3.67,7.555 3.67,6 ; 4.25,-6 4.25,-7.555 4.66,-7.555 4.66,-6 ; 4.25,6 4.25,7.555 4.66,7.555 4.66,6 ; 5.24,-6 5.24,-7.555 5.65,-7.555 5.65,-6 ; 5.24,6 5.24,7.555 5.65,7.555 5.65,6 ; -6.985,-6 -6.985,6 6.985,6 6.985,-6 -6.985,-6
Top Designator:
  text ".Designator" at -3.647,-0.357 h1
Top Courtyard:
  lines w0.05: -7.185,-7.82 7.185,-7.82 7.185,7.82 -7.185,7.82 -7.185,-7.82
Top Component Center:
  lines w0.1: -0.5,0 0.5,0 ; 0,-0.5 0,0.5
3D body "749080010.stp": height 6.2, standoff 0, extent -6.985,-7.555 6.985,7.555